# EAGLE library part NJM2746M (library NJM2746M)
Op Amp, 10MHz, 3 12 V, 8-Pin DMP Source: Datasheet <https://datasheet.datasheetarchive.com/originals/distributors/Datasheets-306/93116.pdf>
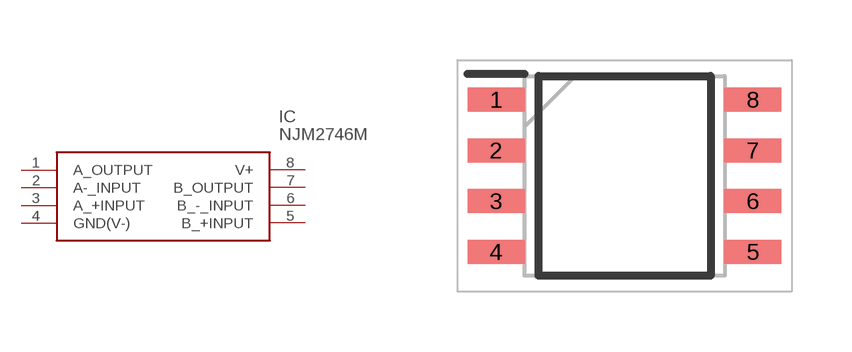
[diagram p0: symbol with the pads of SOIC127P680X200-8N; footprint SOIC127P680X200-8N]

Designator prefix IC

## NJM2746M (Description: Op Amp, 10MHz, 3 12 V, 8-Pin DMP; Height: 2mm; Manufacturer_Name: New Japan Radio; Manufacturer_Part_Number: NJM2746M; Mouser_Part_Number: 513-NJM2746M; Mouser_Price-Stock: https://www.mouser.co.uk/ProductDetail/NJR/NJM2746M?qs=Gh61b4mt6UKVBSM46CS%2FJQ%3D%3D)  [SOIC127P680X200-8N]
1  A_OUTPUT
2  A-_INPUT
3  A_+INPUT
4  GND(V-)
5  B_+INPUT
6  B_-_INPUT
7  B_OUTPUT
8  V+

## Footprint SOIC127P680X200-8N (pad centres in mm)
DMP8_
smd 1.425 x 0.6: 1 -3.212,1.905; 2 -3.212,0.635; 3 -3.212,-0.635; 4 -3.212,-1.905; 5 3.212,-1.905; 6 3.212,-0.635; 7 3.212,0.635; 8 3.212,1.905